# EAGLE library part CONNECTOR_2X3 (library barnabas_noggin_V4)
3x2 M V h 8,5 mm p2,54
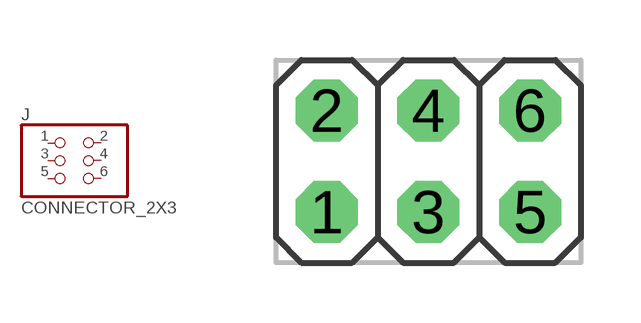
[diagram p1: symbol with the pads of CONNECTOR_2X3; footprint CONNECTOR_2X3]

Designator prefix J

## CONNECTOR_2X3  [CONNECTOR_2X3]
1  1  pas
2  2  pas
3  3  pas
4  4  pas
5  5  pas
6  6  pas

## Footprint CONNECTOR_2X3 (pad centres in mm)
PIN HEADER
drill 1.016 pad 1.55 octagon: 1 -2.54,-1.27; 2 -2.54,1.27; 3 0,-1.27; 4 0,1.27; 5 2.54,-1.27; 6 2.54,1.27